# EAGLE library part MAX517* (library maxim-DAC)
MAX517 I²C-8bit-DA-Converter
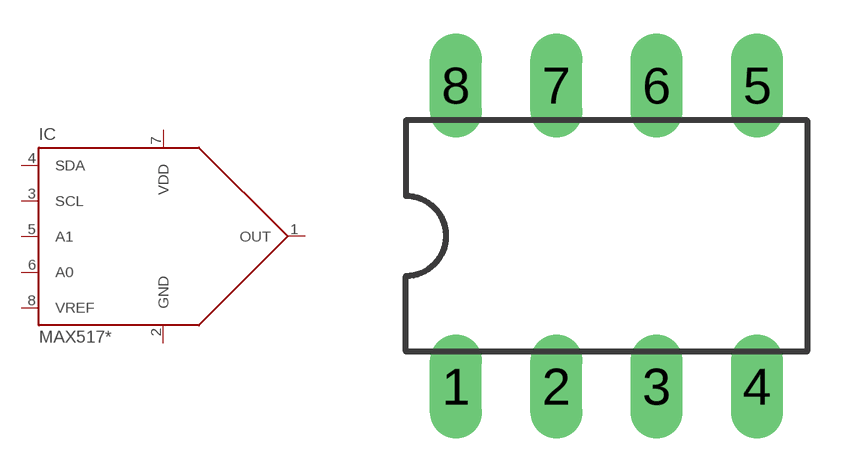
[diagram p0: symbol with the pads of DIL08; footprint DIL08]

Designator prefix IC

## MAX517  [DIL08]
1  OUT  out
2  GND  pwr
3  SCL
4  SDA
5  A1  in
6  A0  in
7  VDD  pwr
8  VREF  in

## Footprint DIL08 (pad centres in mm)
drill 0.813 long: 1 -3.81,-3.81; 2 -1.27,-3.81; 3 1.27,-3.81; 4 3.81,-3.81; 5 3.81,3.81; 6 1.27,3.81; 7 -1.27,3.81; 8 -3.81,3.81